# EAGLE library part MB-N2 (library MB-N2)
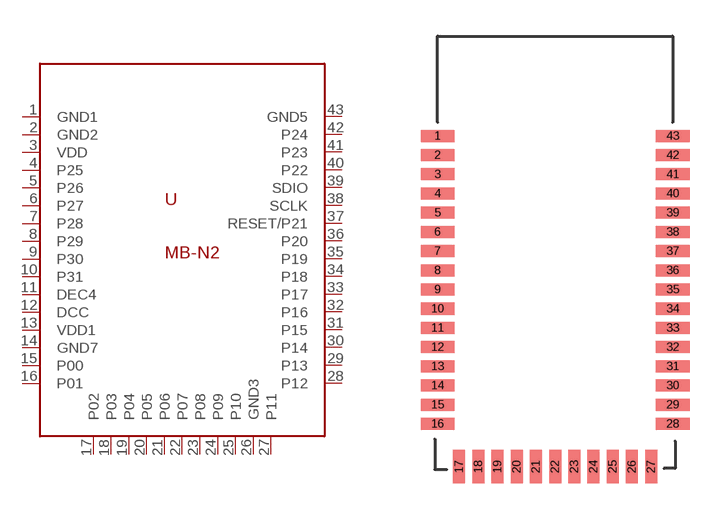
[diagram p0: symbol with the pads of MB-N2; footprint MB-N2]

Designator prefix -

## MB-N2  [MB-N2]
1  GND1
2  GND2
3  VDD
4  P25
5  P26
6  P27
7  P28
8  P29
9  P30
10  P31
11  DEC4
12  DCC
13  VDD1
14  GND7
15  P00
16  P01
17  P02
18  P03
19  P04
20  P05
21  P06
22  P07
23  P08
24  P09
25  P10
26  GND3
27  P11
28  P12
29  P13
30  P14
31  P15
32  P16
33  P17
34  P18
35  P19
36  P20
37  RESET/P21
38  SCLK
39  SDIO
40  P22
41  P23
42  P24
43  GND5

## Footprint MB-N2 (pad centres in mm)
smd 1.4 x 0.5: 1 -0.649,13.085; 2 -0.649,12.285; 3 -0.649,11.485; 4 -0.649,10.685; 5 -0.649,9.885; 6 -0.649,9.085; 7 -0.649,8.285; 8 -0.649,7.485; 9 -0.649,6.685; 10 -0.649,5.885; 11 -0.649,5.085; 12 -0.649,4.285; 13 -0.649,3.485; 14 -0.649,2.685; 15 -0.649,1.885; 16 -0.649,1.085; 28 9.151,1.085; 29 9.151,1.885; 30 9.151,2.685; 31 9.151,3.485; 32 9.151,4.285; 33 9.151,5.085; 34 9.151,5.885; 35 9.151,6.685; 36 9.151,7.485; 37 9.151,8.285; 38 9.151,9.085; 39 9.151,9.885; 40 9.151,10.685; 41 9.151,11.485; 42 9.151,12.285; 43 9.151,13.085
smd 0.5 x 1.4: 17 0.251,-0.7; 18 1.051,-0.7; 19 1.851,-0.7; 20 2.651,-0.7; 21 3.451,-0.7; 22 4.251,-0.7; 23 5.051,-0.7; 24 5.851,-0.7; 25 6.651,-0.7; 26 7.451,-0.7; 27 8.251,-0.7